# Altium schematic symbol library Schlib1.SchLib: 3 symbols
Pins are listed as number, name and electrical type; pins without a type are passive.

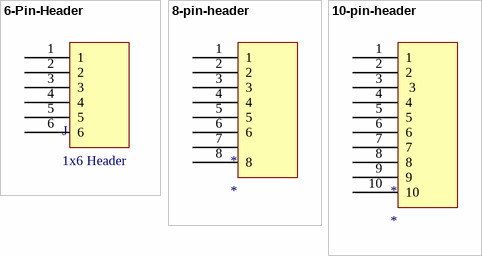
[diagram p0: symbols 6-Pin-Header to 10-pin-header]

## 6-Pin-Header
designator J, comment 1x6 Header
Parameter 1: SSQ-106-03-T-S
footprint 6pin
pins: 1, 2, 3, 4, 5, 6

## 8-pin-header
designator *
footprint 8pin
pins: 1, 2, 3, 4, 5, 6, 7   , 8

## 10-pin-header
designator *
footprint 10pin
pins: 1, 2, 3  3, 4, 5, 7, 8, 9, 10,   6 6